# Altium schematic symbol library Trimmer Potentiometers.SchLib: 3 symbols
Pins are listed as number, name and electrical type; pins without a type are passive.

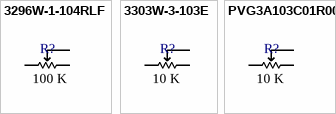
[diagram p0: symbols 3296W-1-104RLF to PVG3A103C01R00]

## 3296W-1-104RLF
designator R?  Resistance: 100 K  (hidden comment: *)
TRIMMER 100K OHM 0.5W PC PIN TOP; Supplier 1: Digi-Key; Supplier 2: Mouser; Supplier Part Number 1: 3296W-1-104RLFCT-ND; Supplier Part Number 2: 652-3296W-1-104RLF
footprint BOURNS_3296W
pins: 1, 2, 3

## 3303W-3-103E
designator R?  Resistance: 10 K  (hidden comment: *)
TRIMMER 10K OHM 0.15W J LEAD TOP
footprint BOURNS_3303W-3
pins: 1, 2, 3

## PVG3A103C01R00
designator R?  Resistance: 10 K  (hidden comment: *)
TRIMMER 10K OHM 0.25W J LEAD TOP; Supplier 1: Digi-Key; Supplier 2: Mouser; Supplier 3: Farnell; Supplier Part Number 1: 490-2644-1-ND; Supplier Part Number 2: 81-PVG3A103C01R00; Supplier Part Number 3: 2709480
footprint BOURNS_PVG3A
pins: 1, 2, 3